# EAGLE library part 690357282476 (library Wurth_Elektronik_Electromechanic_Board_to_Board_Connectors_rev16a)
WR-MM Male SMT Connector without Latch and without Polarization, 24 pins=>Code : Con_BTB_MM_SMT_690357282476 <http://katalog.we-online.de/media/thumbs2/eican/thb_Con_BTB_MM_SMT_69035728xx76_pf2.jpg> Details see: http://katalog.we-online.de/en/em/6903_5728_xx_76 Created 2014-06-04, Karrer Zheng 2014 (C) Würth Elektronik
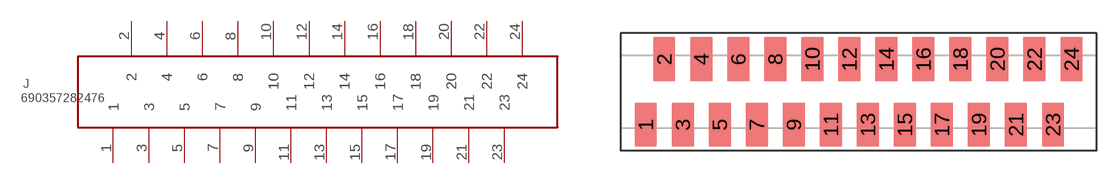
[diagram p341: symbol with the pads of 690357282476; footprint 690357282476]

Designator prefix J

## 690357282476  [690357282476]
1  1  pas
2  2  pas
3  3  pas
4  4  pas
5  5  pas
6  6  pas
7  7  pas
8  8  pas
9  9  pas
10  10  pas
11  11  pas
12  12  pas
13  13  pas
14  14  pas
15  15  pas
16  16  pas
17  17  pas
18  18  pas
19  19  pas
20  20  pas
21  21  pas
22  22  pas
23  23  pas
24  24  pas

## Footprint 690357282476 (pad centres in mm)
WR-MM Male SMT Connector without Latch and without Polarization, 24 pins
smd 1.5 x 3: 1 -13.97,-2.25; 2 -12.7,2.25; 3 -11.43,-2.25; 4 -10.16,2.25; 5 -8.89,-2.25; 6 -7.62,2.25; 7 -6.35,-2.25; 8 -5.08,2.25; 9 -3.81,-2.25; 10 -2.54,2.25; 11 -1.27,-2.25; 12 0,2.25; 13 1.27,-2.25; 14 2.54,2.25; 15 3.81,-2.25; 16 5.08,2.25; 17 6.35,-2.25; 18 7.62,2.25; 19 8.89,-2.25; 20 10.16,2.25; 21 11.43,-2.25; 22 12.7,2.25; 23 13.97,-2.25; 24 15.24,2.25